# Altium footprint library CELC.PcbLib: 1 footprints
Each footprint in its own frame and in the unit in brackets; x right, y up, seen from the top. Pads: shape width x height; smd on the part's side, far side on the other; paste and mask are expansions set on the pad; w line width, h text height; cw(c..) or ccw(c..) is an arc to the next point about the centre after c.
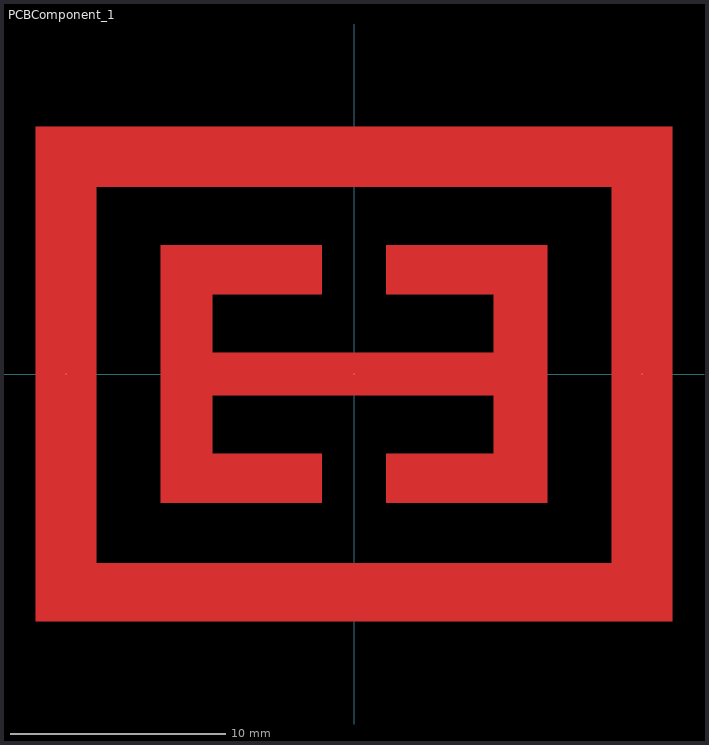
[diagram p0: the footprint, top view; thin cyan lines are the x and y axes]

## PCBComponent_1 [mil]
pads (5):
  round 1 smd: 1(0,0) 2(-527.56,0) 2(0,-399.61) 2(0,397.64) 2(527.56,0)
Top Layer:
  region: -582.68,-452.76 -472.44,-452.76 -472.44,452.76 -582.68,452.76
  region: -472.44,-346.46 -472.44,-452.76 472.44,-452.76 472.44,-346.46
  region: 472.44,-452.76 582.68,-452.76 582.68,452.76 472.44,452.76
  region: -472.44,452.76 -472.44,342.52 472.44,342.52 472.44,452.76
  region: 255.91,39.37 255.91,145.67 59.06,145.67 59.06,236.22 354.33,236.22 354.33,-236.22 59.06,-236.22 59.06,-145.67 255.91,-145.67 255.91,-39.37 -259.84,-39.37 -259.84,-145.67 -59.06,-145.67 -59.06,-236.22 -354.33,-236.22 -354.33,236.22 -59.06,236.22 -59.06,145.67 -259.84,145.67 -259.84,39.37